# Altium footprint library Footprints.PcbLib: 12 footprints
Each footprint in its own frame and in the unit in brackets; x right, y up, seen from the top. Pads: shape width x height; smd on the part's side, far side on the other; paste and mask are expansions set on the pad; w line width, h text height; cw(c..) or ccw(c..) is an arc to the next point about the centre after c.
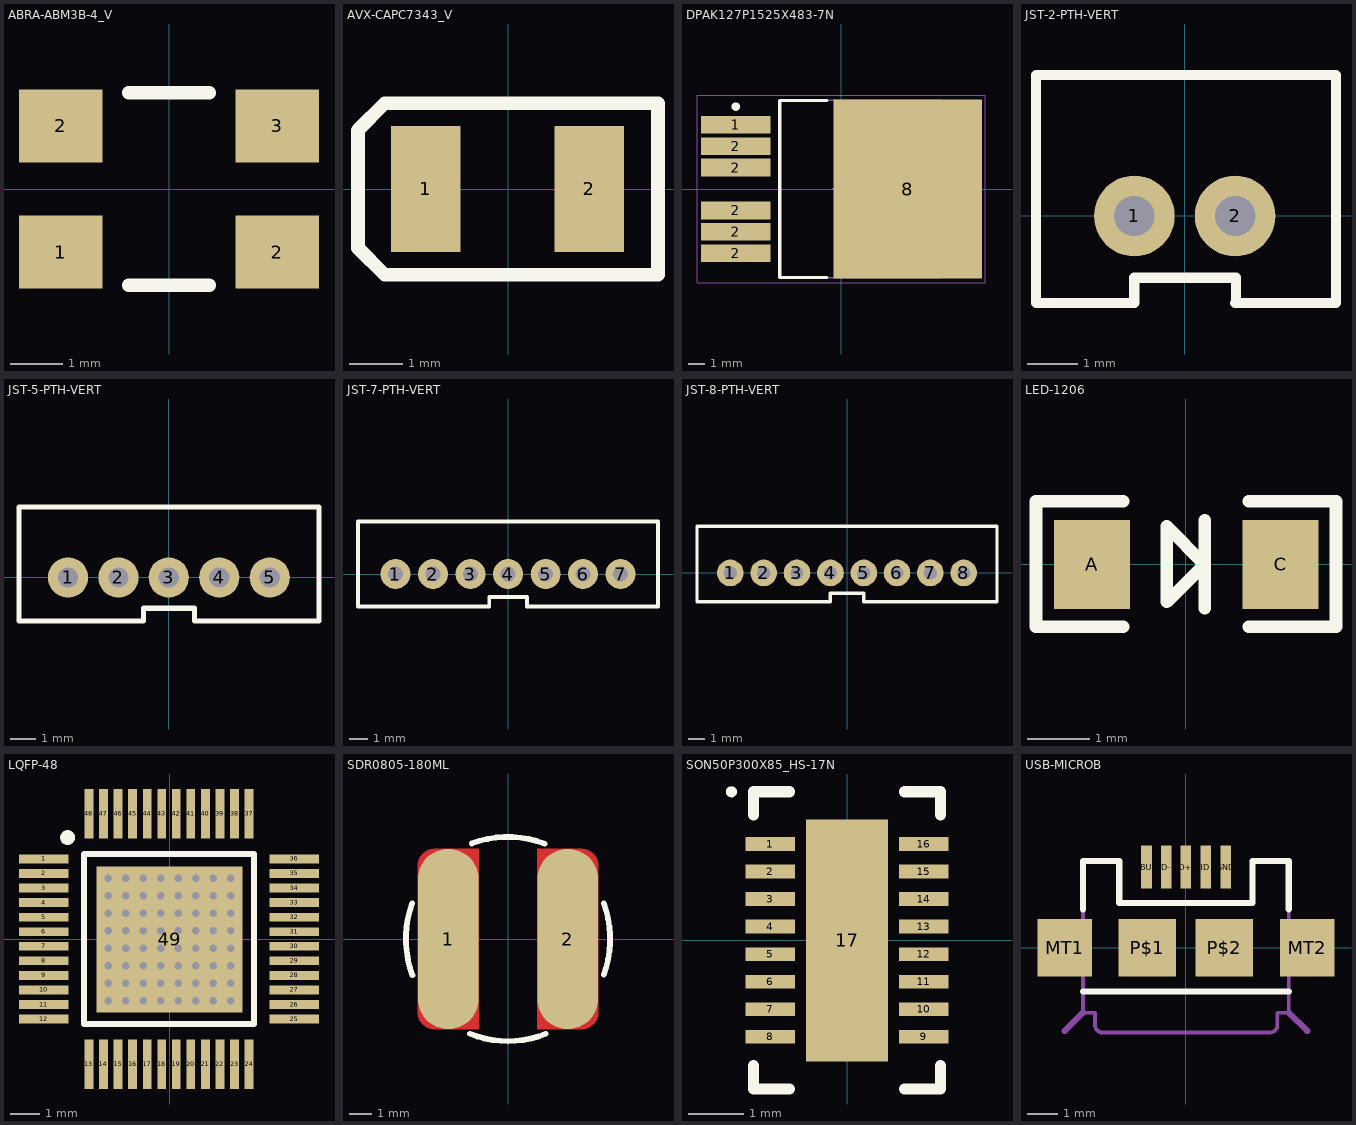
[diagram p0: the footprints below, top view; thin cyan lines are the x and y axes]

## ABRA-ABM3B-4_V [mil] "SMT Crystal, 4-Leads, Body 5.2x3.4mm"
pads (4):
  rect 63x55 smd: 1(-81.5,-47.5) 2(-81.5,47.5) 2(81.5,-47.5) 3(81.5,47.5)
Top Overlay:
  lines w10: -30.5,-72.5 30.5,-72.5 ; -30.5,72.5 30.5,72.5
3D body: height 19.68, standoff 0, extent 62.19,-52.22 97.74,-26.01
3D body: height 19.68, standoff 0, extent -103.01,-51.67 -67.46,-25.46
3D body: height 19.68, standoff 0, extent 67.17,24.91 102.72,51.12
3D body: height 19.68, standoff 0, extent -97.83,24.91 -62.28,51.12
3D body: height 39.37, standoff 0, extent -114.46,-46.87 113.11,46.73

## AVX-CAPC7343_V [mm] "SMT Capacitor, 2 Leads, Body 7.3x4.3mm"
pads (2):
  rect 1.3x2.35 smd: 1(-1.535,0.001) 2(1.515,0.001)
Top Overlay:
  lines w0.254: -2.8,-1.1 -2.8,1.1 -2.299,1.601 2.8,1.597 2.8,-1.6 -2.3,-1.6 -2.8,-1.1
3D body: height 1.9, standoff 0, extent -2.1,-1.1 2.1,1.1

## DPAK127P1525X483-7N [mm] "D2-PAK, 7-Pads, Body 7.93x8.63mm (max), IPC Medium Density"
height 4.83
pads (7):
  rect 4.15x1.05 smd mask+0.051: 1(-6.25,3.81) 2(-6.25,-3.81) 2(-6.25,-2.54) 2(-6.25,-1.27) 2(-6.25,1.27) 2(-6.25,2.54)
  rect 8.8x10.6 smd: 8(3.95,0)
Top Overlay:
  circle w0.25: c-6.25,4.885 r0.125
  lines w0.2: -0.85,-5.25 -3.65,-5.25 -3.65,5.25 -0.85,5.25
Mechanical 13:
  lines w0.1: -3.65,-5.275 -3.65,5.275 6,5.275 6,-5.275 -3.65,-5.275
Mechanical 15:
  lines w0.05: -8.55,-5.55 -8.55,5.55 8.55,5.55 8.55,-5.55 -8.55,-5.55
  lines w0.1: -0.5,0 0.5,0 ; 0,-0.5 0,0.5
3D body: height 4.2, standoff 0, extent -7.004,-5 8,5

## JST-2-PTH-VERT [mm]
pads (2):
  round 1.6 hole 0.8: 1(-1,0) 2(1,0)
Top Overlay:
  lines w0.203: 1,-1.723 3,-1.723 3,2.794 -2.95,2.794 -2.95,-1.723 -1,-1.723 -1,-1.223 1.016,-1.223 1.016,-1.723
3D body: height 6, standoff -3.4, extent -2.95,-1.7 2.95,2.8

## JST-5-PTH-VERT [mil]
pads (5):
  round 63 hole 31.5: 1(-157.48,0) 2(-78.74,0) 3(0,0) 4(79,0) 5(158,0)
Top Overlay:
  lines w8: -234.25,-67.84 -234.25,110 235,110 235,-67.84 40,-67.84 40,-48.16 -39.37,-48.16 -39.37,-67.84 -234.25,-67.84
3D body: height 236.22, standoff -133.86, extent -236.22,-68.9 232.28,108.27

## JST-7-PTH-VERT [mil]
pads (7):
  round 63 hole 31.5: 1(-236.22,0) 2(-157.48,0) 3(-78.74,0) 4(0.26,0) 5(79.26,0) 6(157.48,0) 7(236.22,0)
Top Overlay:
  lines w8: -314.96,-67.84 -314.96,110 314.96,110 314.96,-67.84 40,-67.84 40,-48.16 -39.37,-48.16 -39.37,-67.84 -314.96,-67.84
3D body: height 236.22, standoff -133.86, extent -316.93,-66.93 309.06,110.24

## JST-8-PTH-VERT [mil]
pads (8):
  round 63 hole 31.5: 1(-275.59,0) 2(-196.85,0) 3(-118.11,0) 4(-39.11,0) 5(39.89,0) 6(118.11,0) 7(196.85,0) 8(275.59,0)
Top Overlay:
  lines w8: 39.37,-67.84 354.33,-67.84 354.33,110 -354.33,110 -354.33,-67.84 -39.37,-67.84 -39.37,-48.16 40,-48.16 40,-67.84
3D body: height 236.22, standoff -133.86, extent -352.36,-66.93 352.36,110.24

## LED-1206 [mil]
pads (2):
  rect 48x56 smd: A(-59.06,0) C(60,0)
Top Overlay:
  lines w8: -39.37,-39.37 -94.49,-39.37 -94.49,40 -39.37,40 ; 12,-27.56 12,0 ; 12,28 12,0 ; 40,-39.37 95,-39.37 95,40 40,40 ; 12,0 -11.81,24 -11.81,-23.62 12,0
3D body: height 43.31, standoff -0.39, extent -62.99,-31.5 62.99,31.5

## LQFP-48 [mm]
pads (49):
  rect 1.7x0.3 smd mask+0.076: 1(-4.318,2.767) 2(-4.318,2.267) 3(-4.318,1.767) 4(-4.318,1.267) 5(-4.318,0.767) 6(-4.318,0.267) 7(-4.318,-0.233) 8(-4.318,-0.733) 9(-4.318,-1.233) 10(-4.318,-1.733) 11(-4.318,-2.233) 12(-4.318,-2.733) 25(4.282,-2.733) 26(4.282,-2.233) 27(4.282,-1.733) 28(4.282,-1.233) 29(4.282,-0.733) 30(4.282,-0.233) 31(4.282,0.267) 32(4.282,0.767) 33(4.282,1.267) 34(4.282,1.767) 35(4.282,2.267) 36(4.282,2.767)
  rect 0.3x1.7 smd mask+0.076: 13(-2.768,-4.283) 14(-2.268,-4.283) 15(-1.768,-4.283) 16(-1.268,-4.283) 17(-0.768,-4.283) 18(-0.268,-4.283) 19(0.232,-4.283) 20(0.732,-4.283) 21(1.232,-4.283) 22(1.732,-4.283) 23(2.232,-4.283) 24(2.732,-4.283) 37(2.732,4.317) 38(2.232,4.317) 39(1.732,4.317) 40(1.232,4.317) 41(0.732,4.317) 42(0.232,4.317) 43(-0.268,4.317) 44(-0.768,4.317) 45(-1.268,4.317) 46(-1.768,4.317) 47(-2.268,4.317) 48(-2.768,4.317)
  rect 5x5 smd: 49(0,0)
via -2.1,-2.1 diameter 0.508 hole 0.254
via -1.5,-2.1 diameter 0.508 hole 0.254
via -0.9,-2.1 diameter 0.508 hole 0.254
via -0.3,-2.1 diameter 0.508 hole 0.254
via 0.3,-2.1 diameter 0.508 hole 0.254
via 0.9,-2.1 diameter 0.508 hole 0.254
via 1.5,-2.1 diameter 0.508 hole 0.254
via 2.1,-2.1 diameter 0.508 hole 0.254
via -2.1,-1.5 diameter 0.508 hole 0.254
via -1.5,-1.5 diameter 0.508 hole 0.254
via -0.9,-1.5 diameter 0.508 hole 0.254
via -0.3,-1.5 diameter 0.508 hole 0.254
via 0.3,-1.5 diameter 0.508 hole 0.254
via 0.9,-1.5 diameter 0.508 hole 0.254
via 1.5,-1.5 diameter 0.508 hole 0.254
via 2.1,-1.5 diameter 0.508 hole 0.254
via -2.1,-0.9 diameter 0.508 hole 0.254
via -1.5,-0.9 diameter 0.508 hole 0.254
via -0.9,-0.9 diameter 0.508 hole 0.254
via -0.3,-0.9 diameter 0.508 hole 0.254
via 0.3,-0.9 diameter 0.508 hole 0.254
via 0.9,-0.9 diameter 0.508 hole 0.254
via 1.5,-0.9 diameter 0.508 hole 0.254
via 2.1,-0.9 diameter 0.508 hole 0.254
via -2.1,-0.3 diameter 0.508 hole 0.254
via -1.5,-0.3 diameter 0.508 hole 0.254
via -0.9,-0.3 diameter 0.508 hole 0.254
via -0.3,-0.3 diameter 0.508 hole 0.254
via 0.3,-0.3 diameter 0.508 hole 0.254
via 0.9,-0.3 diameter 0.508 hole 0.254
via 1.5,-0.3 diameter 0.508 hole 0.254
via 2.1,-0.3 diameter 0.508 hole 0.254
via -2.1,0.3 diameter 0.508 hole 0.254
via -1.5,0.3 diameter 0.508 hole 0.254
via -0.9,0.3 diameter 0.508 hole 0.254
via -0.3,0.3 diameter 0.508 hole 0.254
via 0.3,0.3 diameter 0.508 hole 0.254
via 0.9,0.3 diameter 0.508 hole 0.254
via 1.5,0.3 diameter 0.508 hole 0.254
via 2.1,0.3 diameter 0.508 hole 0.254
via -2.1,0.9 diameter 0.508 hole 0.254
via -1.5,0.9 diameter 0.508 hole 0.254
via -0.9,0.9 diameter 0.508 hole 0.254
via -0.3,0.9 diameter 0.508 hole 0.254
via 0.3,0.9 diameter 0.508 hole 0.254
via 0.9,0.9 diameter 0.508 hole 0.254
via 1.5,0.9 diameter 0.508 hole 0.254
via 2.1,0.9 diameter 0.508 hole 0.254
via -2.1,1.5 diameter 0.508 hole 0.254
via -1.5,1.5 diameter 0.508 hole 0.254
via -0.9,1.5 diameter 0.508 hole 0.254
via -0.3,1.5 diameter 0.508 hole 0.254
via 0.3,1.5 diameter 0.508 hole 0.254
via 0.9,1.5 diameter 0.508 hole 0.254
via 1.5,1.5 diameter 0.508 hole 0.254
via 2.1,1.5 diameter 0.508 hole 0.254
via 2.1,2.1 diameter 0.508 hole 0.254
via 1.5,2.1 diameter 0.508 hole 0.254
via 0.9,2.1 diameter 0.508 hole 0.254
via 0.3,2.1 diameter 0.508 hole 0.254
via -0.3,2.1 diameter 0.508 hole 0.254
via -0.9,2.1 diameter 0.508 hole 0.254
via -1.5,2.1 diameter 0.508 hole 0.254
via -2.1,2.1 diameter 0.508 hole 0.254
Top Overlay:
  circle w0.254: c-3.5,3.5 r0.127
  lines w0.2: -2.933,-2.898 2.897,-2.898 2.897,2.932 -2.933,2.932 -2.933,-2.898
3D body: height 1.5, standoff 0, extent -4.5,-4.5 4.5,4.5

## SDR0805-180ML [mm]
pads (2):
  rrect100% 2.7x8 smd: 1(-2.65,0) 2(2.65,0)
Top Layer:
  region: 3.25,4 1.3,4 1.3,-4 3.25,-4 3.299,-4 3.446,-3.981 3.628,-3.905 3.785,-3.785 3.905,-3.628 3.981,-3.446 4,-3.299 4,-3.25 4,3.25 4,3.299 3.981,3.446 3.905,3.628 3.785,3.785 3.628,3.905 3.446,3.981 3.299,4
  region: -3.25,4 -1.3,4 -1.3,-4 -3.25,-4 -3.299,-4 -3.446,-3.981 -3.628,-3.905 -3.785,-3.785 -3.905,-3.628 -3.981,-3.446 -4,-3.299 -4,-3.25 -4,3.25 -4,3.299 -3.981,3.446 -3.905,3.628 -3.785,3.785 -3.628,3.905 -3.446,3.981 -3.299,4
Top Overlay:
  lines w0.254: -4.24,1.59 ccw(c0,0) -4.235,-1.603 ; -1.682,-4.204 ccw(c0,0) 1.676,-4.206 ; -1.603,4.235 cw(c0,0) 1.625,4.226 ; 4.239,-1.59 ccw(c0,0) 4.239,1.59
3D body: height 5.3, standoff 0, extent -3.9,-3.9 3.9,3.9

## SON50P300X85_HS-17N [mm] "SON, 16-Leads, Body 5.00x3.00mm, Pitch 0.50mm, Thermal Pad 4.40x1.49mm, IPC Medium Density"
height 0.85
pads (17):
  rect 0.9x0.25 smd mask+0.076: 1(-1.395,1.75) 2(-1.395,1.25) 3(-1.395,0.75) 4(-1.395,0.25) 5(-1.395,-0.25) 6(-1.395,-0.75) 7(-1.395,-1.25) 8(-1.395,-1.75) 9(1.395,-1.75) 10(1.395,-1.25) 11(1.395,-0.75) 12(1.395,-0.25) 13(1.395,0.25) 14(1.395,0.75) 15(1.395,1.25) 16(1.395,1.75)
  rect 1.49x4.4 smd mask+0.076: 17(0,0)
Top Overlay:
  circle w0.1: c-2.1,2.7 r0.05
  lines w0.2: -1.7,-2.275 -1.7,-2.7 -1.045,-2.7 ; -1.7,2.275 -1.7,2.7 -1.045,2.7 ; 1.045,-2.7 1.7,-2.7 1.7,-2.275 ; 1.045,2.7 1.7,2.7 1.7,2.275
3D body: height 0.8, standoff 0, extent -1.56,-2.05 1.56,2.05

## USB-MICROB [mil]
pads (9):
  rect 14x56 smd: D+(0,105) D-(-25.59,105) GND(52,105) ID(26,105) VBUS(-51.18,105)
  rect 71x75 smd: MT1(-157.48,0) MT2(158,0)
  rect 75x75 smd: P$1(-50,0) P$2(50,0)
Top Overlay:
  lines w8: -133.86,-57.09 134,-57.09 ; -133.86,50 -133.86,113 -86.61,113 -86.61,58 87,58 87,113 134,113 134,50
Mechanical 16:
  lines w5: -133.86,-57.09 -133.86,-84.65 -118.11,-84.65 -118.11,-100.39 ccw(c-108.76,-100.98) -110.24,-110.24 109,-110.24 ccw(c109.67,-100.8) 119,-102.36 119,-84.65 134,-84.65 134,-57.09 ; -133.86,-57.09 -133.86,113 -86.61,113 -86.61,58 87,58 87,113 134,113 134,-57.09 ; -133.86,-57.09 134,-57.09
  lines w8: -157.48,-108.27 -133.86,-84.65 ; 134,-84.65 158,-108.27